# EAGLE library part IF_USBC_PROTECT_TPD6S300A (library !GPLIB_ACTIVE)
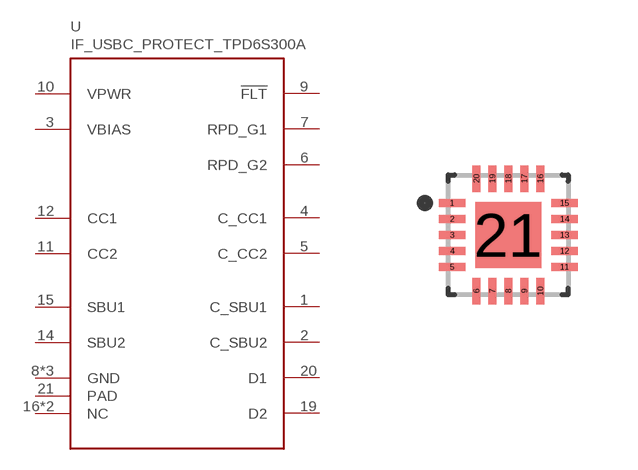
[diagram p57: symbol with the pads of QFN40P300X300X85-21N; footprint QFN40P300X300X85-21N]

Designator prefix U

## IF_USBC_PROTECT_TPD6S300A_TPD6S300ARUKR  [QFN40P300X300X85-21N]
1  C_SBU1
2  C_SBU2
3  VBIAS  pwr
4  C_CC1
5  C_CC2
6  RPD_G2
7  RPD_G1
8  GND  pwr
9  !FLT  out
10  VPWR  pwr
11  CC2
12  CC1
13  GND  pwr
14  SBU2
15  SBU1
16  NC  pas
17  NC  pas
18  GND  pwr
19  D2
20  D1
21  PAD  pwr

## Footprint QFN40P300X300X85-21N (pad centres in mm)
smd 0.665 x 0.2: 1 -1.407,0.8; 2 -1.407,0.4; 3 -1.407,0; 4 -1.407,-0.4; 5 -1.407,-0.8; 11 1.407,-0.8; 12 1.407,-0.4; 13 1.407,0; 14 1.407,0.4; 15 1.407,0.8
smd 0.2 x 0.665: 6 -0.8,-1.407; 7 -0.4,-1.407; 8 0,-1.407; 9 0.4,-1.407; 10 0.8,-1.407; 16 0.8,1.407; 17 0.4,1.407; 18 0,1.407; 19 -0.4,1.407; 20 -0.8,1.407
smd 1.65 x 1.65: 21 0,0